# Altium schematic symbol library MCU_NXP_HC12.SchLib: 2 symbols
Pins are listed as number, name and electrical type; pins without a type are passive.

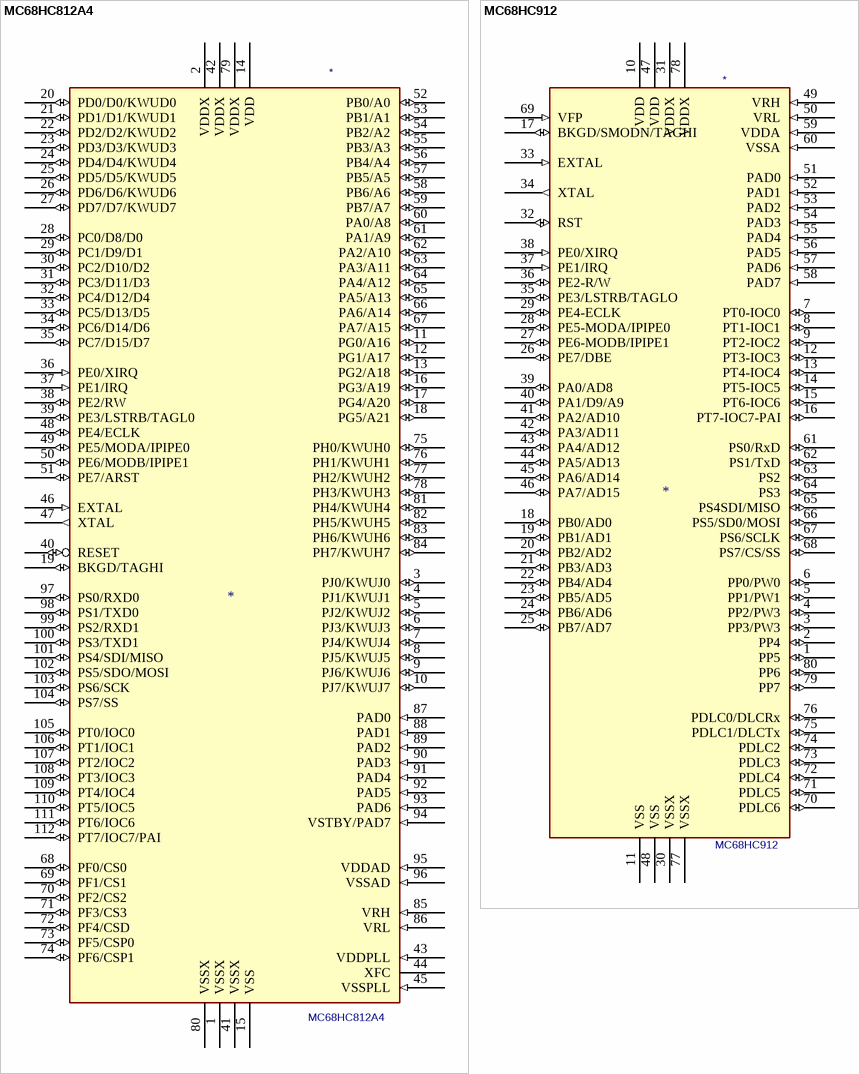
[diagram p0: symbols MC68HC812A4 to MC68HC912]

## MC68HC812A4
designator *  value MC68HC812A4
ki_keywords: 68HC12 Microcontroller; ki_description: HC12 Microcontroller 112 pins
pins: 1 VSSX (power), 2 VDDX (power), 3 PJ0/KWUJ0 (io), 4 PJ1/KWUJ1 (io), 5 PJ2/KWUJ2 (io), 6 PJ3/KWUJ3 (io), 7 PJ4/KWUJ4 (io), 8 PJ5/KWUJ5 (io), 9 PJ6/KWUJ6 (io), 10 PJ7/KWUJ7 (io), 11 PG0/A16 (io), 12 PG1/A17 (io), 13 PG2/A18 (io), 14 VDD (power), 15 VSS (power), 16 PG3/A19 (io), 17 PG4/A20 (io), 18 PG5/A21 (io), 19 BKGD/TAGHI (io), 20 PD0/D0/KWUD0 (io), 21 PD1/D1/KWUD1 (io), 22 PD2/D2/KWUD2 (io), 23 PD3/D3/KWUD3 (io), 24 PD4/D4/KWUD4 (io), 25 PD5/D5/KWUD5 (io), 26 PD6/D6/KWUD6 (io), 27 PD7/D7/KWUD7 (io), 28 PC0/D8/D0 (io), 29 PC1/D9/D1 (io), 30 PC2/D10/D2 (io), 31 PC3/D11/D3 (io), 32 PC4/D12/D4 (io), 33 PC5/D13/D5 (io), 34 PC6/D14/D6 (io), 35 PC7/D15/D7 (io), 36 PE0/XIRQ (in), 37 PE1/IRQ (in), 38 PE2/RW (io), 39 PE3/LSTRB/TAGL0 (io), 40 RESET (io), 41 VSSX (power), 42 VDDX (power), 43 VDDPLL (in), 44 XFC, 45 VSSPLL (in), 46 EXTAL (in), 47 XTAL (out), 48 PE4/ECLK (io), 49 PE5/MODA/IPIPE0 (io), 50 PE6/MODB/IPIPE1 (io), 51 PE7/ARST (io), 52 PB0/A0 (io), 53 PB1/A1 (io), 54 PB2/A2 (io), 55 PB3/A3 (io), 56 PB4/A4 (io), 57 PB5/A5 (io), 58 PB6/A6 (io), 59 PB7/A7 (io), 60 PA0/A8 (io), 61 PA1/A9 (io), 62 PA2/A10 (io), 63 PA3/A11 (io), 64 PA4/A12 (io), 65 PA5/A13 (io), 66 PA6/A14 (io), 67 PA7/A15 (io), 68 PF0/CS0 (io), 69 PF1/CS1 (io), 70 PF2/CS2 (io), 71 PF3/CS3 (io), 72 PF4/CSD (io), 73 PF5/CSP0 (io), 74 PF6/CSP1 (io), 75 PH0/KWUH0 (io), 76 PH1/KWUH1 (io), 77 PH2/KWUH2 (io), 78 PH3/KWUH3 (io), 79 VDDX (power), 80 VSSX (power), 81 PH4/KWUH4 (io), 82 PH5/KWUH5 (io), 83 PH6/KWUH6 (io), 84 PH7/KWUH7 (io), 85 VRH (in), 86 VRL (in), 87 PAD0 (in), 88 PAD1 (in), 89 PAD2 (in), 90 PAD3 (in), 91 PAD4 (in), 92 PAD5 (in), 93 PAD6 (in), 94 VSTBY/PAD7 (in), 95 VDDAD (in), 96 VSSAD (in), 97 PS0/RXD0 (io), 98 PS1/TXD0 (io), 99 PS2/RXD1 (io), 100 PS3/TXD1 (io), 101 PS4/SDI/MISO (io), 102 PS5/SDO/MOSI (io), 103 PS6/SCK (io), 104 PS7/SS (io), 105 PT0/IOC0 (io), 106 PT1/IOC1 (io), 107 PT2/IOC2 (io), 108 PT3/IOC3 (io), 109 PT4/IOC4 (io), 110 PT5/IOC5 (io), 111 PT6/IOC6 (io), 112 PT7/IOC7/PAI (io)

## MC68HC912
designator *  value MC68HC912
ki_keywords: 68HC12 Microcontroller; ki_description: HC12 Microcontroller
pins: 1 PP5 (io), 2 PP4 (io), 3 PP3/PW3 (io), 4 PP2/PW3 (io), 5 PP1/PW1 (io), 6 PP0/PW0 (io), 7 PT0-IOC0 (io), 8 PT1-IOC1 (io), 9 PT2-IOC2 (io), 10 VDD (power), 11 VSS (power), 12 PT3-IOC3 (io), 13 PT4-IOC4 (io), 14 PT5-IOC5 (io), 15 PT6-IOC6 (io), 16 PT7-IOC7-PAI (io), 17 BKGD/SMODN/TAGHI (io), 18 PB0/AD0 (io), 19 PB1/AD1 (io), 20 PB2/AD2 (io), 21 PB3/AD3 (io), 22 PB4/AD4 (io), 23 PB5/AD5 (io), 24 PB6/AD6 (io), 25 PB7/AD7 (io), 26 PE7/DBE (io), 27 PE6-MODB/IPIPE1 (io), 28 PE5-MODA/IPIPE0 (io), 29 PE4-ECLK (io), 30 VSSX (power), 31 VDDX (power), 32 RST (io), 33 EXTAL (in), 34 XTAL (out), 35 PE3/LSTRB/TAGLO (io), 36 PE2-R/W (io), 37 PE1/IRQ (in), 38 PE0/XIRQ (in), 39 PA0/AD8 (io), 40 PA1/D9/A9 (io), 41 PA2/AD10 (io), 42 PA3/AD11 (io), 43 PA4/AD12 (io), 44 PA5/AD13 (io), 45 PA6/AD14 (io), 46 PA7/AD15 (io), 47 VDD (power), 48 VSS (power), 49 VRH (in), 50 VRL (in), 51 PAD0 (in), 52 PAD1 (in), 53 PAD2 (in), 54 PAD3 (in), 55 PAD4 (in), 56 PAD5 (in), 57 PAD6 (in), 58 PAD7 (in), 59 VDDA (in), 60 VSSA (in), 61 PS0/RxD (io), 62 PS1/TxD (io), 63 PS2 (io), 64 PS3 (io), 65 PS4SDI/MISO (io), 66 PS5/SD0/MOSI (io), 67 PS6/SCLK (io), 68 PS7/CS/SS (io), 69 VFP (in), 70 PDLC6 (io), 71 PDLC5 (io), 72 PDLC4 (io), 73 PDLC3 (io), 74 PDLC2 (io), 75 PDLC1/DLCTx (io), 76 PDLC0/DLCRx (io), 77 VSSX (power), 78 VDDX (power), 79 PP7 (io), 80 PP6 (io)